# EAGLE library part SPI_FLASH-X25XX (library rezzonics)
SPI Flash SOIC-16 16-pin SPI Flash series x25x. Works with devices like W25Q64FV http://www.winbond.com/resource-files/w25q64fv_revl1_100713.pdf
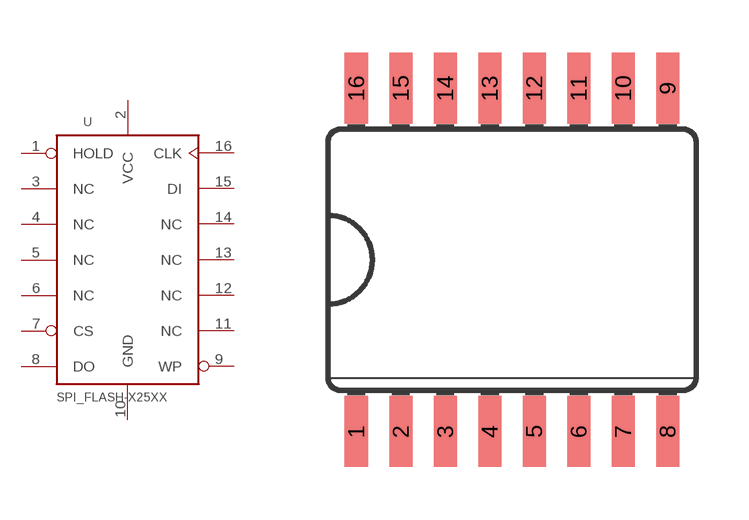
[diagram p10: symbol with the pads of SO16L; footprint SO16L]

Designator prefix U

## SPI_FLASH-X25XX  [SO16L]
1  HOLD
2  VCC  pwr
3  NC  nc
4  NC  nc
5  NC  nc
6  NC  nc
7  CS  in
8  DO
9  WP
10  GND  pwr
11  NC  nc
12  NC  nc
13  NC  nc
14  NC  nc
15  DI
16  CLK  in

## Footprint SO16L (pad centres in mm)
Small Outline Package .300 SIOC Source: http://www.maxim-ic.com/cgi-bin/packages?pkg=16%2FSOIC%2E300&Type=Max
smd 0.66 x 2.032: 1 -4.445,-4.902; 2 -3.175,-4.902; 3 -1.905,-4.902; 4 -0.635,-4.902; 5 0.635,-4.902; 6 1.905,-4.902; 7 3.175,-4.902; 8 4.445,-4.902; 9 4.445,4.902; 10 3.175,4.902; 11 1.905,4.902; 12 0.635,4.902; 13 -0.635,4.902; 14 -1.905,4.902; 15 -3.175,4.902; 16 -4.445,4.902